# Altium integrated library Transistors BJT.IntLib: 6 symbols
Pins are listed as number, name and electrical type; pins without a type are passive.

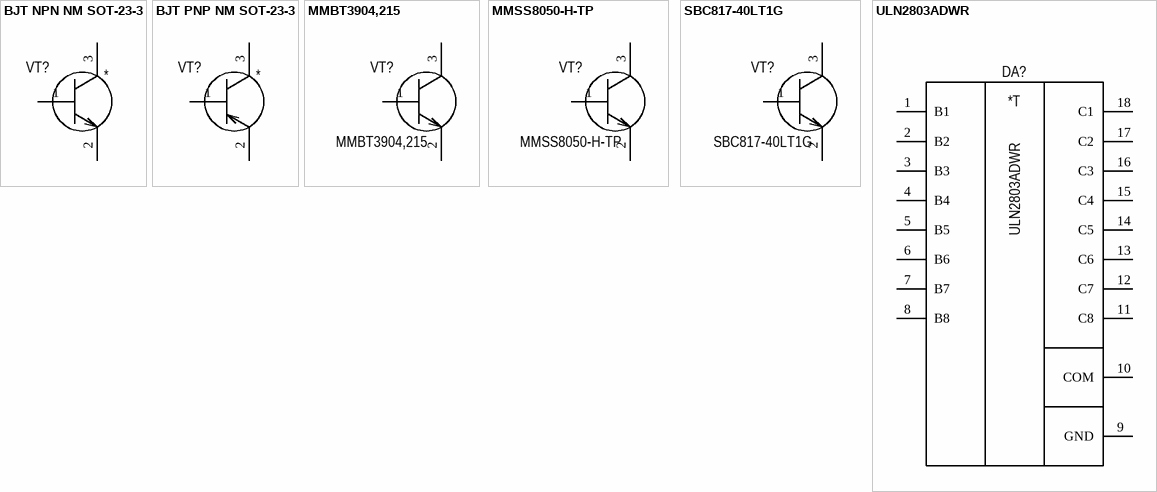
[diagram p0: symbols BJT NPN NM SOT-23-3 to ULN2803ADWR]

## BJT NPN NM SOT-23-3
designator VT?, comment NM  (value not drawn)  (no BOM)
BJT NPN NM SOT-23-3; Group: Discrete; Component: Transistor BJT; Part name: NM; Package: SOT-23-3; BJT type: NPN; Dimension: 3.00mm x 2.60mm; Height: 1.10mm; Mounting type: Surface mount (Not mounted)
footprint SOT-23-3L NM
footprint SOT-23-3N NM
pins: 1 Base, 2 Emitter, 3 Collector

## BJT PNP NM SOT-23-3
designator VT?, comment NM  (value not drawn)  (no BOM)
BJT PNP NM SOT-23-3; Group: Discrete; Component: Transistor BJT; Part name: NM; Package: SOT-23-3; BJT type: PNP; Dimension: 3.00mm x 2.60mm; Height: 1.10mm; Mounting type: Surface mount (Not mounted)
footprint SOT-23-3L NM
footprint SOT-23-3N NM
pins: 1 Base, 2 Emitter, 3 Collector

## MMBT3904,215
designator VT?
BJT NPN 0.2A 40V; Manufacturer: NXP Semiconductors; Group: Discrete; Emiter-base voltage: 6V; Collector current: 200mA; Power: 250mW; Component: Transistor BJT; Part name: MMBT3904,215; Package: SOT-23-3; Collector-emiter voltage: 40V; BJT type: NPN; Dimension: 3.00mm x 2.60mm; Height: 1.10mm; Operating temperature: -65°C +150°C; Mounting type: Surface mount
footprint SOT-23-3L
footprint SOT-23-3N
pins: 1 Base, 2 Emitter, 3 Collector

## MMSS8050-H-TP
designator VT?
BJT NPN 1.5A 25V; Manufacturer: Micro commercial; Group: Discrete; Emiter-base voltage: 5V; Power: 625mW; Component: Transistor BJT; Part name: MMSS8050-H-TP; Package: SOT-23-3; Collector-emiter voltage: 25V; Collector current: 1.5A; BJT type: NPN; Dimension: 3.00mm x 2.60mm; Height: 1.10mm; Operating temperature: -55°C +150°C; Mounting type: Surface mount
footprint SOT-23-3L
footprint SOT-23-3N
pins: 1 Base, 2 Emitter, 3 Collector

## SBC817-40LT1G
designator VT?
BJT NPN 0.5A 45V; Manufacturer: ON Semiconductor; Group: Discrete; Emiter-base voltage: 5V; Power: 300mW; Component: Transistor BJT; Part name: SBC817-40LT1G; Package: SOT-23-3; Collector-emiter voltage: 45V; Collector current: 0.5A; BJT type: NPN; Dimension: 3.00mm x 2.60mm; Height: 1.10mm; Operating temperature: -65°C +150°C; Mounting type: Surface mount
footprint SOT-23-3L
footprint SOT-23-3N
pins: 1 Base, 2 Emitter, 3 Collector

## ULN2803ADWR
designator DA?
BJT NPN8 0.5A 50V; Manufacturer: Texas Instruments; Group: Discrete; Emiter-base voltage: 5V; Collector current: 500mA; Component: Transistor BJT; Part name: ULN2803ADWR; Package: SOIC-18 (7.5); Collector-emiter voltage: 50V; BJT type: NPN8; Dimension: 11.75mm x 10.63mm; Height: 2.65mm; Operating temperature: -40°C +85°C; Mounting type: Surface mount
footprint SOIC-18N
pins: 1 B1, 2 B2, 3 B3, 4 B4, 5 B5, 6 B6, 7 B7, 8 B8, 9 GND "Common emitter shared by all channels (typically tied to ground)", 10 COM "Common cathode node for flyback diodes (required for inductive loads)", 11 C8, 12 C7, 13 C6, 14 C5, 15 C4, 16 C3, 17 C2, 18 C1
text: *T